# EAGLE library part AD7762 (library Radicon)
AD7762 625 kSPS, 24-Bit, 109 dB Sigma-Delta ADC With On-Chip Buffer
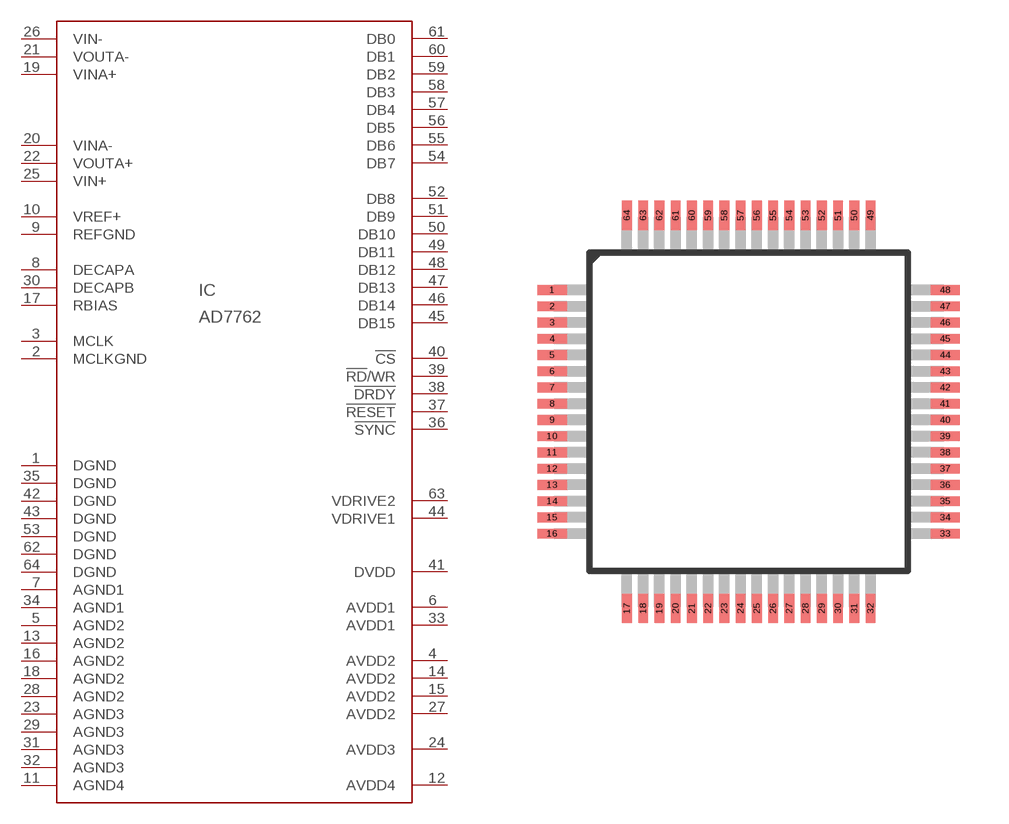
[diagram p22: symbol with the pads of TQFP_EP64; footprint TQFP_EP64]

Designator prefix IC

## AD7762  [TQFP_EP64]
1  DGND  pas
2  MCLKGND  pas
3  MCLK  pas
4  AVDD2  pas
5  AGND2  pas
6  AVDD1  pas
7  AGND1  pas
8  DECAPA  pas
9  REFGND  pas
10  VREF+  pas
11  AGND4  pas
12  AVDD4  pas
13  AGND2  pas
14  AVDD2  pas
15  AVDD2  pas
16  AGND2  pas
17  RBIAS  pas
18  AGND2  pas
19  VINA+  pas
20  VINA-  pas
21  VOUTA-  pas
22  VOUTA+  pas
23  AGND3  pas
24  AVDD3  pas
25  VIN+  pas
26  VIN-  pas
27  AVDD2  pas
28  AGND2  pas
29  AGND3  pas
30  DECAPB  pas
31  AGND3  pas
32  AGND3  pas
33  AVDD1  pas
34  AGND1  pas
35  DGND  pas
36  !SYNC  pas
37  !RESET  pas
38  !DRDY  pas
39  !RD!/WR  pas
40  !CS  pas
41  DVDD  pas
42  DGND  pas
43  DGND  pas
44  VDRIVE1  pas
45  DB15  pas
46  DB14  pas
47  DB13  pas
48  DB12  pas
49  DB11  pas
50  DB10  pas
51  DB9  pas
52  DB8  pas
53  DGND  pas
54  DB7  pas
55  DB6  pas
56  DB5  pas
57  DB4  pas
58  DB3  pas
59  DB2  pas
60  DB1  pas
61  DB0  pas
62  DGND  pas
63  VDRIVE2  pas
64  DGND  pas

## Footprint TQFP_EP64 (pad centres in mm)
TQFP_EP64 Auto generated by make-symbol-device-package-bsdl.ulp Rev. 29
smd 0.9 x 0.3: 1 -6.05,3.75; 2 -6.05,3.25; 3 -6.05,2.75; 4 -6.05,2.25; 5 -6.05,1.75; 6 -6.05,1.25; 7 -6.05,0.75; 8 -6.05,0.25; 9 -6.05,-0.25; 10 -6.05,-0.75; 11 -6.05,-1.25; 12 -6.05,-1.75; 13 -6.05,-2.25; 14 -6.05,-2.75; 15 -6.05,-3.25; 16 -6.05,-3.75; 33 6.05,-3.75; 34 6.05,-3.25; 35 6.05,-2.75; 36 6.05,-2.25; 37 6.05,-1.75; 38 6.05,-1.25; 39 6.05,-0.75; 40 6.05,-0.25; 41 6.05,0.25; 42 6.05,0.75; 43 6.05,1.25; 44 6.05,1.75; 45 6.05,2.25; 46 6.05,2.75; 47 6.05,3.25; 48 6.05,3.75
smd 0.3 x 0.9: 17 -3.75,-6.05; 18 -3.25,-6.05; 19 -2.75,-6.05; 20 -2.25,-6.05; 21 -1.75,-6.05; 22 -1.25,-6.05; 23 -0.75,-6.05; 24 -0.25,-6.05; 25 0.25,-6.05; 26 0.75,-6.05; 27 1.25,-6.05; 28 1.75,-6.05; 29 2.25,-6.05; 30 2.75,-6.05; 31 3.25,-6.05; 32 3.75,-6.05; 49 3.75,6.05; 50 3.25,6.05; 51 2.75,6.05; 52 2.25,6.05; 53 1.75,6.05; 54 1.25,6.05; 55 0.75,6.05; 56 0.25,6.05; 57 -0.25,6.05; 58 -0.75,6.05; 59 -1.25,6.05; 60 -1.75,6.05; 61 -2.25,6.05; 62 -2.75,6.05; 63 -3.25,6.05; 64 -3.75,6.05